# Altium footprint library WCAP-AIG5.PcbLib: 30 footprints (part 2 of 2)
Each footprint in its own frame and in the unit in brackets; x right, y up, seen from the top. Pads: shape width x height; smd on the part's side, far side on the other; paste and mask are expansions set on the pad; w line width, h text height; cw(c..) or ccw(c..) is an arc to the next point about the centre after c.
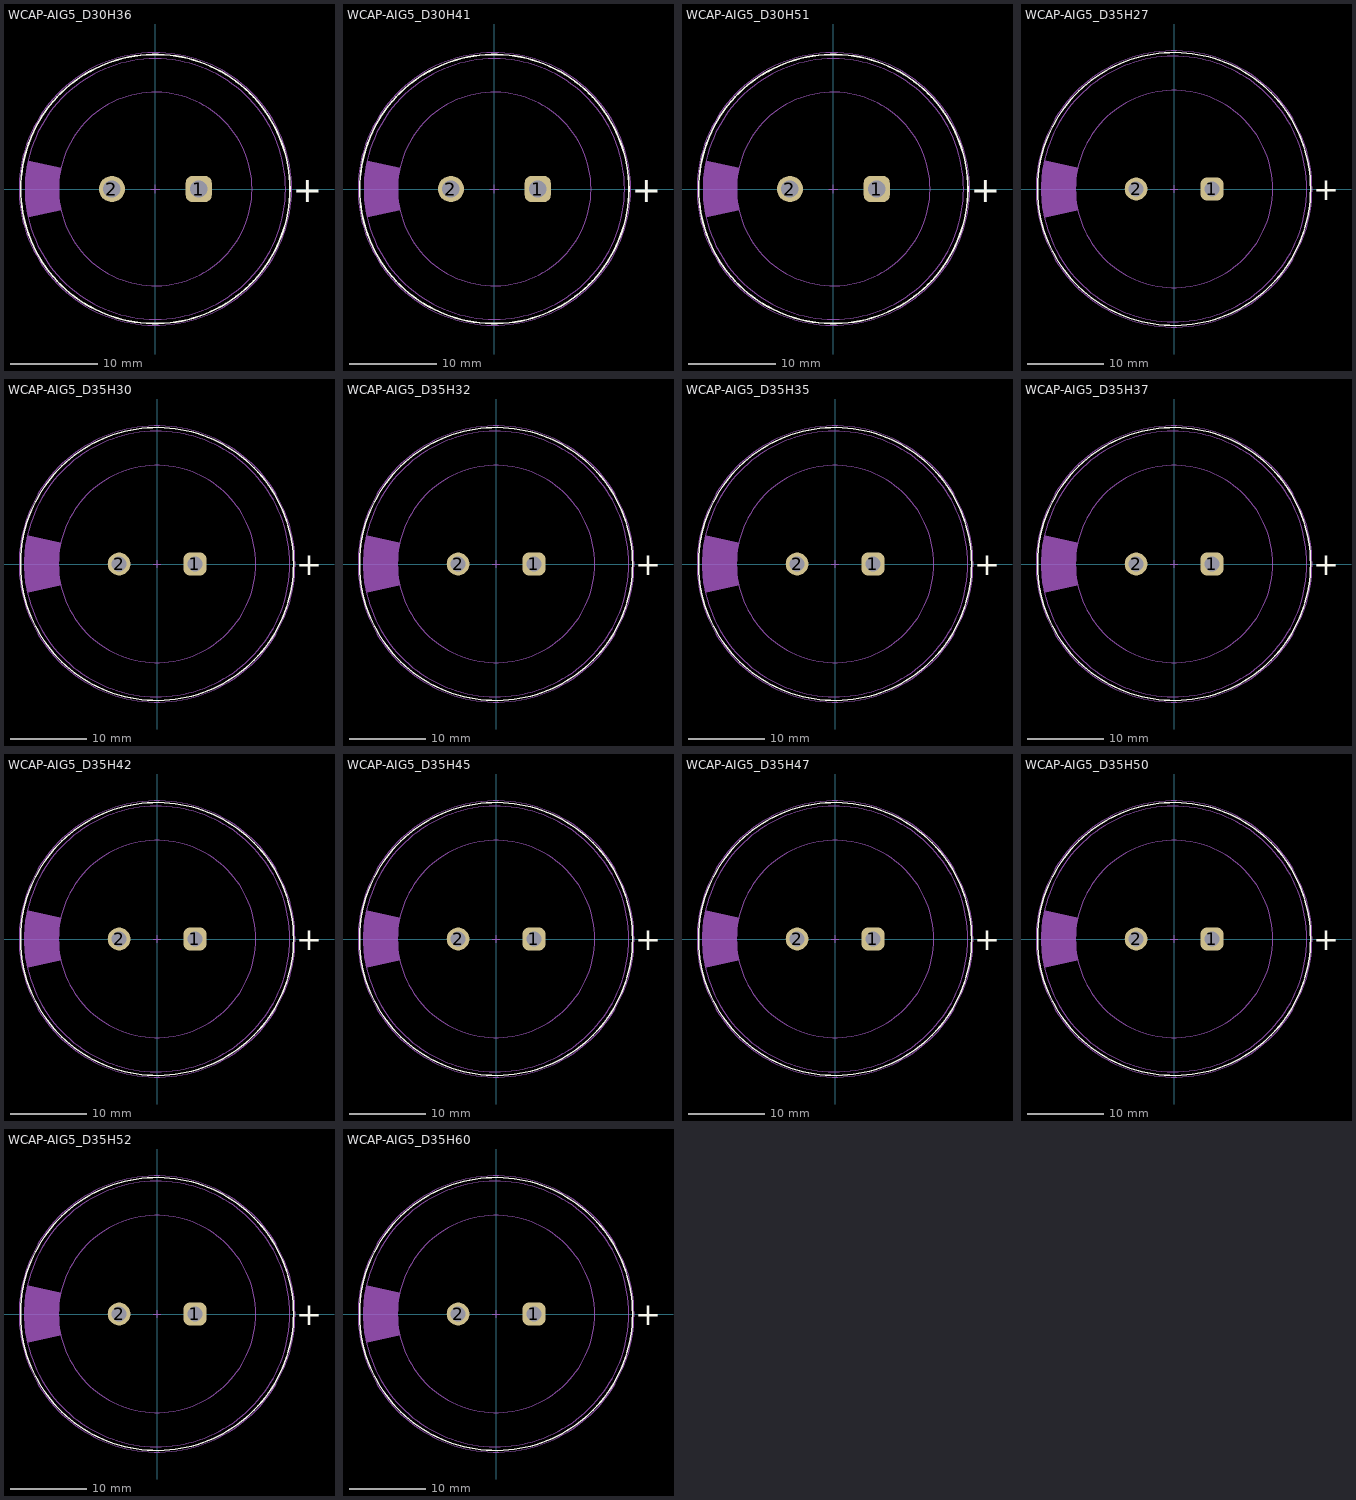
[diagram p1: the footprints below, top view; thin cyan lines are the x and y axes]

## WCAP-AIG5_D30H36 [mm] "Aluminium Electrolytic Snap-In Capacitors, 30x36mm"
height 36
pads (2):
  rrect50% 3x3 hole 2: 1(5,0)
  round 3 hole 2: 2(-5,0)
Top Overlay:
  circle w0.2: c0,0 r15.5
  text "+" at 15.85,-1.5 h3
Top Component Outline:
  circle w0.1: c0,0 r15
  circle w0.1: c0,0 r11.14
  region: -14.643,-3.251 -10.874,-2.422 -10.874,-2.421 -10.936,-2.122 -11.036,-1.52 -11.102,-0.914 -11.136,-0.305 -11.136,0.305 -11.102,0.914 -11.036,1.52 -10.936,2.122 -10.874,2.421 -10.874,2.422 -14.643,3.251 -14.732,2.851 -14.866,2.042 -14.955,1.228 -15,0.41 -15,-0.41 -14.955,-1.228 -14.866,-2.042 -14.732,-2.851
Top Courtyard:
  circle w0.05: c0,0 r15.7
Top Component Center:
  lines w0.05: -0.5,0 0.5,0 ; 0,-0.5 0,0.5
Top Designator (Mech19):
  text ".Designator" at -7.498,-0.5 h1.5
3D body "30x36.stp": height 36.09, standoff -6.05, extent -14.96,-14.999 14.999,15

## WCAP-AIG5_D30H41 [mm] "Aluminium Electrolytic Snap-In Capacitors, 30x41mm"
height 41
pads (2):
  rrect50% 3x3 hole 2: 1(5,0)
  round 3 hole 2: 2(-5,0)
Top Overlay:
  circle w0.2: c0,0 r15.5
  text "+" at 15.85,-1.5 h3
Top Component Outline:
  circle w0.1: c0,0 r15
  circle w0.1: c0,0 r11.14
  region: -14.643,-3.251 -10.874,-2.422 -10.874,-2.421 -10.936,-2.122 -11.036,-1.52 -11.102,-0.914 -11.136,-0.305 -11.136,0.305 -11.102,0.914 -11.036,1.52 -10.936,2.122 -10.874,2.421 -10.874,2.422 -14.643,3.251 -14.732,2.851 -14.866,2.042 -14.955,1.228 -15,0.41 -15,-0.41 -14.955,-1.228 -14.866,-2.042 -14.732,-2.851
Top Courtyard:
  circle w0.05: c0,0 r15.7
Top Component Center:
  lines w0.05: -0.5,0 0.5,0 ; 0,-0.5 0,0.5
Top Designator (Mech19):
  text ".Designator" at -7.498,-0.5 h1.5
3D body "30x41.stp": height 41.09, standoff -6.05, extent -14.96,-14.995 14.999,14.996

## WCAP-AIG5_D30H51 [mm] "Aluminium Electrolytic Snap-In Capacitors, 30x51mm"
height 51
pads (2):
  rrect50% 3x3 hole 2: 1(5,0)
  round 3 hole 2: 2(-5,0)
Top Overlay:
  circle w0.2: c0,0 r15.5
  text "+" at 15.85,-1.5 h3
Top Component Outline:
  circle w0.1: c0,0 r15
  circle w0.1: c0,0 r11.14
  region: -14.643,-3.251 -10.874,-2.422 -10.874,-2.421 -10.936,-2.122 -11.036,-1.52 -11.102,-0.914 -11.136,-0.305 -11.136,0.305 -11.102,0.914 -11.036,1.52 -10.936,2.122 -10.874,2.421 -10.874,2.422 -14.643,3.251 -14.732,2.851 -14.866,2.042 -14.955,1.228 -15,0.41 -15,-0.41 -14.955,-1.228 -14.866,-2.042 -14.732,-2.851
Top Courtyard:
  circle w0.05: c0,0 r15.7
Top Component Center:
  lines w0.05: -0.5,0 0.5,0 ; 0,-0.5 0,0.5
Top Designator (Mech19):
  text ".Designator" at -7.498,-0.5 h1.5
3D body "30x51.stp": height 51.09, standoff -6.05, extent -14.96,-14.995 14.999,14.998

## WCAP-AIG5_D35H27 [mm] "Aluminium Electrolytic Snap-In Capacitors, 35x27mm"
height 27
pads (2):
  rrect50% 3x3 hole 2: 1(5,0)
  round 3 hole 2: 2(-5,0)
Top Overlay:
  circle w0.2: c0,0 r18
  text "+" at 18.35,-1.5 h3
Top Component Outline:
  circle w0.1: c0,0 r13
  circle w0.1: c0,0 r17.5
  region: -17.083,-3.797 -12.69,-2.823 -12.69,-2.821 -12.763,-2.473 -12.879,-1.772 -12.956,-1.065 -12.995,-0.355 -12.995,0.355 -12.956,1.065 -12.879,1.772 -12.763,2.473 -12.69,2.821 -12.69,2.823 -17.083,3.797 -17.187,3.33 -17.343,2.386 -17.448,1.434 -17.5,0.479 -17.5,-0.479 -17.448,-1.434 -17.343,-2.386 -17.187,-3.33
Top Courtyard:
  circle w0.05: c0,0 r18.2
Top Component Center:
  lines w0.05: -0.5,0 0.5,0 ; 0,-0.5 0,0.5
Top Designator (Mech19):
  text ".Designator" at -7.498,-0.5 h1.5
3D body "35x27.stp": height 27.09, standoff -6.05, extent -17.46,-17.495 17.5,17.498

## WCAP-AIG5_D35H30 [mm] "Aluminium Electrolytic Snap-In Capacitors, 35x30mm"
height 30
pads (2):
  rrect50% 3x3 hole 2: 1(5,0)
  round 3 hole 2: 2(-5,0)
Top Overlay:
  circle w0.2: c0,0 r18
  text "+" at 18.35,-1.5 h3
Top Component Outline:
  circle w0.1: c0,0 r17.5
  circle w0.1: c0,0 r13
  region: -17.083,-3.797 -12.69,-2.823 -12.69,-2.821 -12.763,-2.473 -12.879,-1.772 -12.956,-1.065 -12.995,-0.355 -12.995,0.355 -12.956,1.065 -12.879,1.772 -12.763,2.473 -12.69,2.821 -12.69,2.823 -17.083,3.797 -17.187,3.33 -17.343,2.386 -17.448,1.434 -17.5,0.479 -17.5,-0.479 -17.448,-1.434 -17.343,-2.386 -17.187,-3.33
Top Courtyard:
  circle w0.05: c0,0 r18.2
Top Component Center:
  lines w0.05: -0.5,0 0.5,0 ; 0,-0.5 0,0.5
Top Designator (Mech19):
  text ".Designator" at -7.498,-0.5 h1.5
3D body "35x30.stp": height 30.09, standoff -6.05, extent -17.46,-17.495 17.5,17.498

## WCAP-AIG5_D35H32 [mm] "Aluminium Electrolytic Snap-In Capacitors, 35x32mm"
height 32
pads (2):
  rrect50% 3x3 hole 2: 1(5,0)
  round 3 hole 2: 2(-5,0)
Top Overlay:
  circle w0.2: c0,0 r18
  text "+" at 18.35,-1.5 h3
Top Component Outline:
  circle w0.1: c0,0 r17.5
  circle w0.1: c0,0 r13
  region: -17.083,-3.797 -12.69,-2.823 -12.69,-2.821 -12.763,-2.473 -12.879,-1.772 -12.956,-1.065 -12.995,-0.355 -12.995,0.355 -12.956,1.065 -12.879,1.772 -12.763,2.473 -12.69,2.821 -12.69,2.823 -17.083,3.797 -17.187,3.33 -17.343,2.386 -17.448,1.434 -17.5,0.479 -17.5,-0.479 -17.448,-1.434 -17.343,-2.386 -17.187,-3.33
Top Courtyard:
  circle w0.05: c0,0 r18.2
Top Component Center:
  lines w0.05: -0.5,0 0.5,0 ; 0,-0.5 0,0.5
Top Designator (Mech19):
  text ".Designator" at -7.498,-0.5 h1.5
3D body "35x32.stp": height 32.09, standoff -6.05, extent -17.46,-17.495 17.5,17.498

## WCAP-AIG5_D35H35 [mm] "Aluminium Electrolytic Snap-In Capacitors, 35x35mm"
height 35
pads (2):
  rrect50% 3x3 hole 2: 1(5,0)
  round 3 hole 2: 2(-5,0)
Top Overlay:
  circle w0.2: c0,0 r18
  text "+" at 18.35,-1.5 h3
Top Component Outline:
  circle w0.1: c0,0 r17.5
  circle w0.1: c0,0 r13
  region: -17.083,-3.797 -12.69,-2.823 -12.69,-2.821 -12.763,-2.473 -12.879,-1.772 -12.956,-1.065 -12.995,-0.355 -12.995,0.355 -12.956,1.065 -12.879,1.772 -12.763,2.473 -12.69,2.821 -12.69,2.823 -17.083,3.797 -17.187,3.33 -17.343,2.386 -17.448,1.434 -17.5,0.479 -17.5,-0.479 -17.448,-1.434 -17.343,-2.386 -17.187,-3.33
Top Courtyard:
  circle w0.05: c0,0 r18.2
Top Component Center:
  lines w0.05: -0.5,0 0.5,0 ; 0,-0.5 0,0.5
Top Designator (Mech19):
  text ".Designator" at -7.498,-0.5 h1.5
3D body "35x35.stp": height 35.09, standoff -6.05, extent -17.46,-17.5 17.5,17.499

## WCAP-AIG5_D35H37 [mm] "Aluminium Electrolytic Snap-In Capacitors, 35x37mm"
height 37
pads (2):
  rrect50% 3x3 hole 2: 1(5,0)
  round 3 hole 2: 2(-5,0)
Top Overlay:
  circle w0.2: c0,0 r18
  text "+" at 18.35,-1.5 h3
Top Component Outline:
  circle w0.1: c0,0 r17.5
  circle w0.1: c0,0 r13
  region: -17.083,-3.797 -12.69,-2.823 -12.69,-2.821 -12.763,-2.473 -12.879,-1.772 -12.956,-1.065 -12.995,-0.355 -12.995,0.355 -12.956,1.065 -12.879,1.772 -12.763,2.473 -12.69,2.821 -12.69,2.823 -17.083,3.797 -17.187,3.33 -17.343,2.386 -17.448,1.434 -17.5,0.479 -17.5,-0.479 -17.448,-1.434 -17.343,-2.386 -17.187,-3.33
Top Courtyard:
  circle w0.05: c0,0 r18.2
Top Component Center:
  lines w0.05: -0.5,0 0.5,0 ; 0,-0.5 0,0.5
Top Designator (Mech19):
  text ".Designator" at -7.498,-0.5 h1.5
3D body "35x37.stp": height 37.09, standoff -6.05, extent -17.46,-17.497 17.5,17.499

## WCAP-AIG5_D35H42 [mm] "Aluminium Electrolytic Snap-In Capacitors, 35x42mm"
height 42
pads (2):
  rrect50% 3x3 hole 2: 1(5,0)
  round 3 hole 2: 2(-5,0)
Top Overlay:
  circle w0.2: c0,0 r18
  text "+" at 18.35,-1.5 h3
Top Component Outline:
  circle w0.1: c0,0 r13
  circle w0.1: c0,0 r17.5
  region: -17.083,-3.797 -12.69,-2.823 -12.69,-2.821 -12.763,-2.473 -12.879,-1.772 -12.956,-1.065 -12.995,-0.355 -12.995,0.355 -12.956,1.065 -12.879,1.772 -12.763,2.473 -12.69,2.821 -12.69,2.823 -17.083,3.797 -17.187,3.33 -17.343,2.386 -17.448,1.434 -17.5,0.479 -17.5,-0.479 -17.448,-1.434 -17.343,-2.386 -17.187,-3.33
Top Courtyard:
  circle w0.05: c0,0 r18.2
Top Component Center:
  lines w0.05: -0.5,0 0.5,0 ; 0,-0.5 0,0.5
Top Designator (Mech19):
  text ".Designator" at -7.498,-0.5 h1.5
3D body "35x42.stp": height 42.09, standoff -6.05, extent -17.46,-17.498 17.5,17.496

## WCAP-AIG5_D35H45 [mm] "Aluminium Electrolytic Snap-In Capacitors, 35x45mm"
height 45
pads (2):
  rrect50% 3x3 hole 2: 1(5,0)
  round 3 hole 2: 2(-5,0)
Top Overlay:
  circle w0.2: c0,0 r18
  text "+" at 18.35,-1.5 h3
Top Component Outline:
  circle w0.1: c0,0 r17.5
  circle w0.1: c0,0 r13
  region: -17.083,-3.797 -12.69,-2.823 -12.69,-2.821 -12.763,-2.473 -12.879,-1.772 -12.956,-1.065 -12.995,-0.355 -12.995,0.355 -12.956,1.065 -12.879,1.772 -12.763,2.473 -12.69,2.821 -12.69,2.823 -17.083,3.797 -17.187,3.33 -17.343,2.386 -17.448,1.434 -17.5,0.479 -17.5,-0.479 -17.448,-1.434 -17.343,-2.386 -17.187,-3.33
Top Courtyard:
  circle w0.05: c0,0 r18.2
Top Component Center:
  lines w0.05: -0.5,0 0.5,0 ; 0,-0.5 0,0.5
Top Designator (Mech19):
  text ".Designator" at -7.498,-0.5 h1.5
3D body "35x45.stp": height 45.09, standoff -6.05, extent -17.46,-17.497 17.5,17.494

## WCAP-AIG5_D35H47 [mm] "Aluminium Electrolytic Snap-In Capacitors, 35x47mm"
height 47
pads (2):
  rrect50% 3x3 hole 2: 1(5,0)
  round 3 hole 2: 2(-5,0)
Top Overlay:
  circle w0.2: c0,0 r18
  text "+" at 18.35,-1.5 h3
Top Component Outline:
  circle w0.1: c0,0 r13
  circle w0.1: c0,0 r17.5
  region: -17.083,-3.797 -12.69,-2.823 -12.69,-2.821 -12.763,-2.473 -12.879,-1.772 -12.956,-1.065 -12.995,-0.355 -12.995,0.355 -12.956,1.065 -12.879,1.772 -12.763,2.473 -12.69,2.821 -12.69,2.823 -17.083,3.797 -17.187,3.33 -17.343,2.386 -17.448,1.434 -17.5,0.479 -17.5,-0.479 -17.448,-1.434 -17.343,-2.386 -17.187,-3.33
Top Courtyard:
  circle w0.05: c0,0 r18.2
Top Component Center:
  lines w0.05: -0.5,0 0.5,0 ; 0,-0.5 0,0.5
Top Designator (Mech19):
  text ".Designator" at -7.498,-0.5 h1.5
3D body "35x47.stp": height 47.09, standoff -6.05, extent -17.46,-17.5 17.5,17.5

## WCAP-AIG5_D35H50 [mm] "Aluminium Electrolytic Snap-In Capacitors, 35x50mm"
height 50
pads (2):
  rrect50% 3x3 hole 2: 1(5,0)
  round 3 hole 2: 2(-5,0)
Top Overlay:
  circle w0.2: c0,0 r18
  text "+" at 18.35,-1.5 h3
Top Component Outline:
  circle w0.1: c0,0 r13
  circle w0.1: c0,0 r17.5
  region: -17.083,-3.797 -12.69,-2.823 -12.69,-2.821 -12.763,-2.473 -12.879,-1.772 -12.956,-1.065 -12.995,-0.355 -12.995,0.355 -12.956,1.065 -12.879,1.772 -12.763,2.473 -12.69,2.821 -12.69,2.823 -17.083,3.797 -17.187,3.33 -17.343,2.386 -17.448,1.434 -17.5,0.479 -17.5,-0.479 -17.448,-1.434 -17.343,-2.386 -17.187,-3.33
Top Courtyard:
  circle w0.05: c0,0 r18.2
Top Component Center:
  lines w0.05: -0.5,0 0.5,0 ; 0,-0.5 0,0.5
Top Designator (Mech19):
  text ".Designator" at -7.498,-0.5 h1.5
3D body "35x50.stp": height 50.09, standoff -6.05, extent -24.749,-24.749 24.749,24.749

## WCAP-AIG5_D35H52 [mm] "Aluminium Electrolytic Snap-In Capacitors, 35x52mm"
height 52
pads (2):
  rrect50% 3x3 hole 2: 1(5,0)
  round 3 hole 2: 2(-5,0)
Top Overlay:
  circle w0.2: c0,0 r18
  text "+" at 18.35,-1.5 h3
Top Component Outline:
  circle w0.1: c0,0 r13
  circle w0.1: c0,0 r17.5
  region: -17.083,-3.797 -12.69,-2.823 -12.69,-2.821 -12.763,-2.473 -12.879,-1.772 -12.956,-1.065 -12.995,-0.355 -12.995,0.355 -12.956,1.065 -12.879,1.772 -12.763,2.473 -12.69,2.821 -12.69,2.823 -17.083,3.797 -17.187,3.33 -17.343,2.386 -17.448,1.434 -17.5,0.479 -17.5,-0.479 -17.448,-1.434 -17.343,-2.386 -17.187,-3.33
Top Courtyard:
  circle w0.05: c0,0 r18.2
Top Component Center:
  lines w0.05: -0.5,0 0.5,0 ; 0,-0.5 0,0.5
Top Designator (Mech19):
  text ".Designator" at -7.498,-0.5 h1.5
3D body "35x52.stp": height 52.09, standoff -6.05, extent -17.46,-17.5 17.5,17.5

## WCAP-AIG5_D35H60 [mm] "Aluminium Electrolytic Snap-In Capacitors, 35x60mm"
height 60
pads (2):
  rrect50% 3x3 hole 2: 1(5,0)
  round 3 hole 2: 2(-5,0)
Top Overlay:
  circle w0.2: c0,0 r18
  text "+" at 18.35,-1.5 h3
Top Component Outline:
  circle w0.1: c0,0 r13
  circle w0.1: c0,0 r17.5
  region: -17.083,-3.797 -12.69,-2.823 -12.69,-2.821 -12.763,-2.473 -12.879,-1.772 -12.956,-1.065 -12.995,-0.355 -12.995,0.355 -12.956,1.065 -12.879,1.772 -12.763,2.473 -12.69,2.821 -12.69,2.823 -17.083,3.797 -17.187,3.33 -17.343,2.386 -17.448,1.434 -17.5,0.479 -17.5,-0.479 -17.448,-1.434 -17.343,-2.386 -17.187,-3.33
Top Courtyard:
  circle w0.05: c0,0 r18.2
Top Component Center:
  lines w0.05: -0.5,0 0.5,0 ; 0,-0.5 0,0.5
Top Designator (Mech19):
  text ".Designator" at -7.498,-0.5 h1.5
3D body "35x60.stp": height 60.09, standoff -6.05, extent -17.46,-17.494 17.5,17.498